# Altium schematic symbol library LM358.Schlib: 1 symbol
Pins are listed as number, name and electrical type; pins without a type are passive.

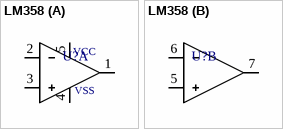
[diagram p0: symbol LM358]

## LM358
designator U?  (value not drawn)
Dual Op Amp, 1.1MHz, General Purpose, LM358
part A pins: 1, 2, 3, 4, 5
part B pins: 5, 6, 7
part A text: VCC; VSS